# Altium integrated library ALTIUM-WL-SBTW-rev17a.IntLib: 3 symbols
Pins are listed as number, name and electrical type; pins without a type are passive.

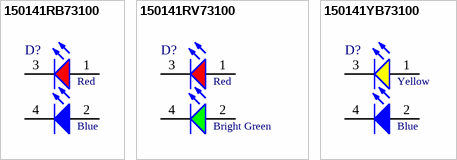
[diagram p0: symbols 150141RB73100 to 150141YB73100]

## 150141RB73100
designator D?
WL-SBTW SMD Bi-color TOP LED Waterclear, size 3528, Red & Blue; Part Number: 150141RB73100; Viewing Angle: 120°; Published Date: Jan 2017; Publisher: Wurth Elektronik; ComponentLink1Description: Manufacturer; ComponentLink1URL: http://www.we-online.de; ComponentLink2Description: Datasheet; ComponentLink2URL: http://katalog.we-online.de/led/datasheet/150141RB73100.pdf; Size: 3528; Emitting Color: Red & Blue
footprint WL-SBTW_3528 (Footprint not found)
pins: 1 A, 2 A, 3 K, 4 K
text: Red; Blue

## 150141RV73100
designator D?
WL-SBTW SMD Bi-color TOP LED Waterclear, size 3528, Red & Bright Green; Part Number: 150141RV73100; Viewing Angle: 120°; Published Date: Jan 2017; Publisher: Wurth Elektronik; ComponentLink1Description: Manufacturer; ComponentLink1URL: http://www.we-online.de; ComponentLink2Description: Datasheet; ComponentLink2URL: http://katalog.we-online.de/led/datasheet/150141RV73100.pdf; Size: 3528; Emitting Color: Red & Bright Green
footprint WL-SBTW_3528
pins: 1 A, 2 A, 3 K, 4 K
text: Red; Bright Green

## 150141YB73100
designator D?
WL-SBTW SMD Bi-color TOP LED Waterclear, size 3528, Yellow & Blue; Part Number: 150141YB73100; Viewing Angle: 120°; Published Date: Jan 2017; Publisher: Wurth Elektronik; ComponentLink1Description: Manufacturer; ComponentLink1URL: http://www.we-online.de; ComponentLink2Description: Datasheet; ComponentLink2URL: http://katalog.we-online.de/led/datasheet/150141YB73100.pdf; Size: 3528; Emitting Color: Yellow & Blue
footprint WL-SBTW_3528
pins: 1 A, 2 A, 3 K, 4 K
text: Yellow; Blue